# EAGLE library part FT2232H-56Q (library Gowin)
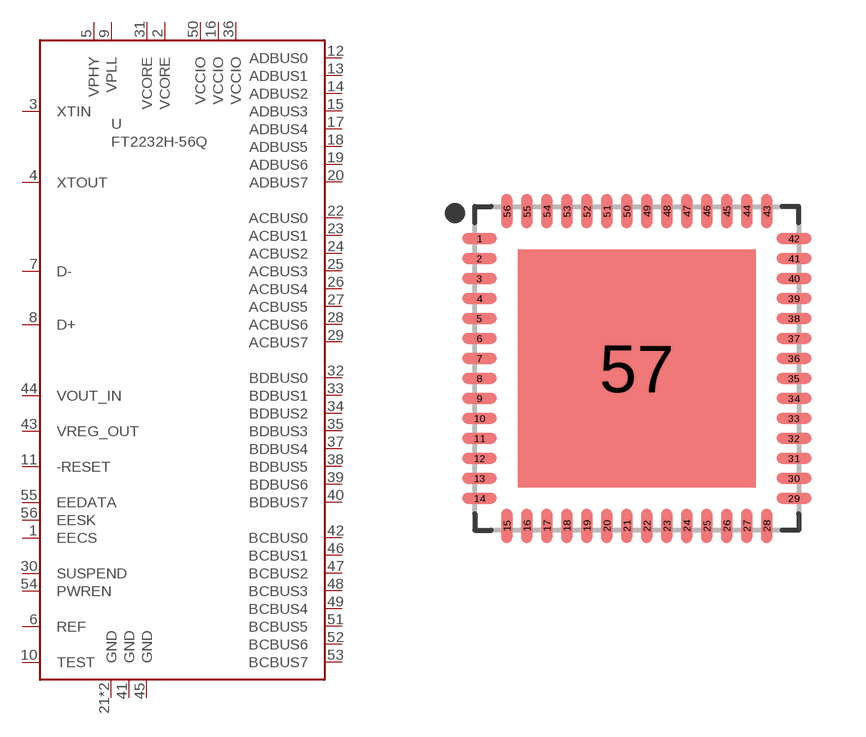
[diagram p3: symbol with the pads of QFN50P800X800X90-57T595N; footprint QFN50P800X800X90-57T595N]

Designator prefix -

## FT2232H-56QQFN56  [QFN50P800X800X90-57T595N]
1  EECS  out
2  VCORE
3  XTIN  in
4  XTOUT  out
5  VPHY
6  REF
7  D-
8  D+
9  VPLL
10  TEST
11  -RESET  in
12  ADBUS0
13  ADBUS1
14  ADBUS2
15  ADBUS3
16  VCCIO
17  ADBUS4
18  ADBUS5
19  ADBUS6
20  ADBUS7
21  GND  pwr
22  ACBUS0
23  ACBUS1
24  ACBUS2
25  ACBUS3
26  ACBUS4
27  ACBUS5
28  ACBUS6
29  ACBUS7
30  SUSPEND
31  VCORE
32  BDBUS0
33  BDBUS1
34  BDBUS2
35  BDBUS3
36  VCCIO
37  BDBUS4
38  BDBUS5
39  BDBUS6
40  BDBUS7
41  GND  pwr
42  BCBUS0
43  VREG_OUT  out
44  VOUT_IN
45  GND  pwr
46  BCBUS1
47  BCBUS2
48  BCBUS3
49  BCBUS4
50  VCCIO
51  BCBUS5
52  BCBUS6
53  BCBUS7
54  PWREN
55  EEDATA  in
56  EESK  out
57  GND  pwr

## Footprint QFN50P800X800X90-57T595N (pad centres in mm)
56-QFN, 0.50 mm pitch, 8.00 X 8.00 X 0.90 mm body, 5.95 X 5.95 mm thermal pad 56-pin QFN package with 0.50 mm pitch with body size 8.00 X 8.00 X 0.90 mm and thermal pad size 5.95 X 5.95 mm
smd 0.86 x 0.27: 1 -3.935,3.25; 2 -3.935,2.75; 3 -3.935,2.25; 4 -3.935,1.75; 5 -3.935,1.25; 6 -3.935,0.75; 7 -3.935,0.25; 8 -3.935,-0.25; 9 -3.935,-0.75; 10 -3.935,-1.25; 11 -3.935,-1.75; 12 -3.935,-2.25; 13 -3.935,-2.75; 14 -3.935,-3.25; 29 3.935,-3.25; 30 3.935,-2.75; 31 3.935,-2.25; 32 3.935,-1.75; 33 3.935,-1.25; 34 3.935,-0.75; 35 3.935,-0.25; 36 3.935,0.25; 37 3.935,0.75; 38 3.935,1.25; 39 3.935,1.75; 40 3.935,2.25; 41 3.935,2.75; 42 3.935,3.25
smd 0.27 x 0.86: 15 -3.25,-3.935; 16 -2.75,-3.935; 17 -2.25,-3.935; 18 -1.75,-3.935; 19 -1.25,-3.935; 20 -0.75,-3.935; 21 -0.25,-3.935; 22 0.25,-3.935; 23 0.75,-3.935; 24 1.25,-3.935; 25 1.75,-3.935; 26 2.25,-3.935; 27 2.75,-3.935; 28 3.25,-3.935; 43 3.25,3.935; 44 2.75,3.935; 45 2.25,3.935; 46 1.75,3.935; 47 1.25,3.935; 48 0.75,3.935; 49 0.25,3.935; 50 -0.25,3.935; 51 -0.75,3.935; 52 -1.25,3.935; 53 -1.75,3.935; 54 -2.25,3.935; 55 -2.75,3.935; 56 -3.25,3.935
smd 5.95 x 5.95: 57 0,0